# Altium footprint library DM3AT-SF-PEJM5.PCBLIB: 1 footprints
Each footprint in its own frame and in the unit in brackets; x right, y up, seen from the top. Pads: shape width x height; smd on the part's side, far side on the other; paste and mask are expansions set on the pad; w line width, h text height; cw(c..) or ccw(c..) is an arc to the next point about the centre after c.
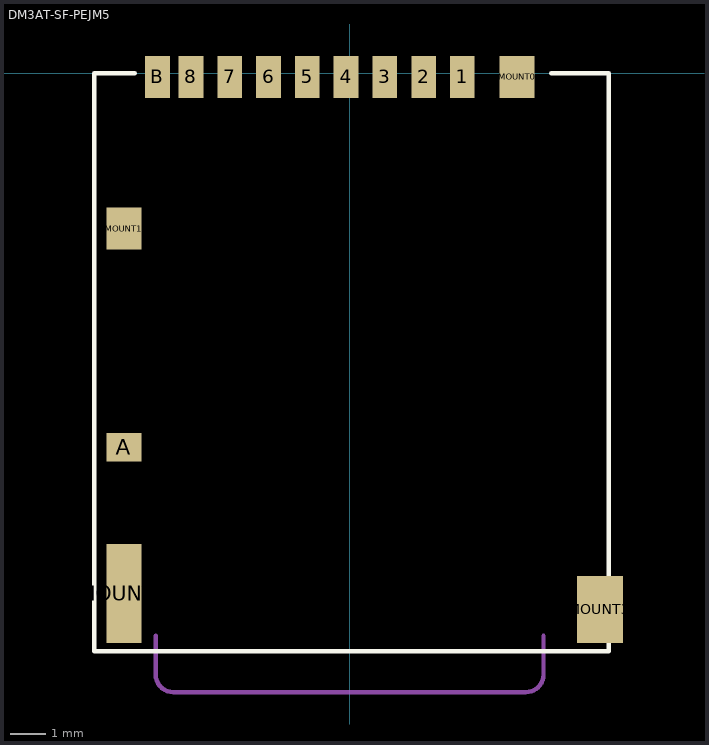
[diagram p0: the footprint, top view; thin cyan lines are the x and y axes]

## DM3AT-SF-PEJM5 [mm]
pads (14):
  rect 0.7x1.2 smd: 1(3.2,-0.1) 2(2.1,-0.1) 3(1,-0.1) 4(-0.1,-0.1) 5(-1.2,-0.1) 6(-2.3,-0.1) 7(-3.4,-0.1) 8(-4.5,-0.1) B(-5.45,-0.1)
  rect 1x0.8 smd: A(-6.4,-10.6)
  rect 1x1.2 smd: MOUNT0(4.75,-0.1) MOUNT1(-6.4,-4.4)
  rect 1x2.8 smd: MOUNT2(-6.4,-14.75)
  rect 1.3x1.9 smd: MOUNT3(7.1,-15.2)
Top Overlay:
  lines w0.127: -6.096,0 -7.239,0 -7.239,-16.383 7.35,-16.383 7.35,0 5.715,0
Mechanical 16:
  lines w0.127: -5.5,-15.95 -5.5,-17.05 ccw(c-5,-17.05) -5,-17.55 5,-17.55 ccw(c5,-17.05) 5.5,-17.05 5.5,-15.95